# Altium footprint library I.MX6ULL邮票孔转接板.PcbLib: 2 footprints
Each footprint in its own frame and in the unit in brackets; x right, y up, seen from the top. Pads: shape width x height; smd on the part's side, far side on the other; paste and mask are expansions set on the pad; w line width, h text height; cw(c..) or ccw(c..) is an arc to the next point about the centre after c.
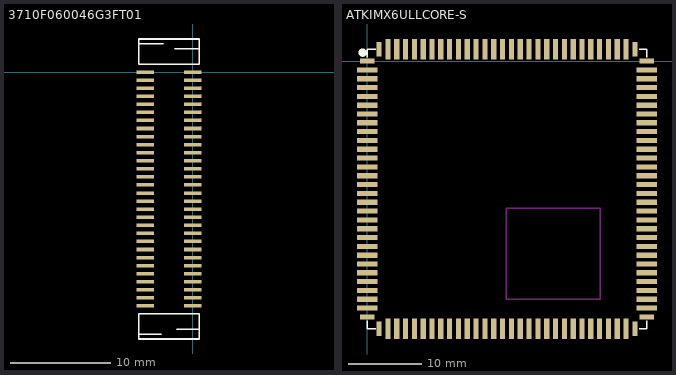
[diagram p0: the footprints below, top view; thin cyan lines are the x and y axes]

## 3710F060046G3FT01 [mm]
pads (60):
  rect 1.7x0.35 smd: 1(-4.7,0) 2(-4.7,-0.8) 3(-4.7,-1.6) 4(-4.7,-2.4) 5(-4.7,-3.2) 6(-4.7,-4) 7(-4.7,-4.8) 8(-4.7,-5.6) 9(-4.7,-6.4) 10(-4.7,-7.2) 11(-4.7,-8) 12(-4.7,-8.8) 13(-4.7,-9.6) 14(-4.7,-10.4) 15(-4.7,-11.2) 16(-4.7,-12) 17(-4.7,-12.8) 18(-4.7,-13.6) 19(-4.7,-14.4) 20(-4.7,-15.2) 21(-4.7,-16) 22(-4.7,-16.8) 23(-4.7,-17.6) 24(-4.7,-18.4) 25(-4.7,-19.2) 26(-4.7,-20) 27(-4.7,-20.8) 28(-4.7,-21.6) 29(-4.7,-22.4) 30(-4.7,-23.2) 31(0,-23.2) 32(0,-22.4) 33(0,-21.6) 34(0,-20.8) 35(0,-20) 36(0,-19.2) 37(0,-18.4) 38(0,-17.6) 39(0,-16.8) 40(0,-16) 41(0,-15.2) 42(0,-14.4) 43(0,-13.6) 44(0,-12.8) 45(0,-12) 46(0,-11.2) 47(0,-10.4) 48(0,-9.6) 49(0,-8.8) 50(0,-8) 51(0,-7.2) 52(0,-6.4) 53(0,-5.6) 54(0,-4.8) 55(0,-4) 56(0,-3.2) 57(0,-2.4) 58(0,-1.6) 59(0,-0.8) 60(0,0)
Top Overlay:
  lines w0.152: -5.35,-26 -3.1,-26 ; -5.35,2.8 -2.9,2.8 ; -1.8,2.3 0.65,2.3 ; -1.6,-25.5 0.65,-25.5 ; 0.625,0.775 -5.35,0.775 -5.35,3.275 0.65,3.275 0.65,0.775 ; -5.35,-26.475 0.65,-26.475 0.65,-23.975 -5.35,-23.975 -5.35,-26.475

## ATKIMX6ULLCORE-S [mm]
pads (120):
  rect 2x0.7 smd: 1(0,0) 30(0,-34.8) 61(38,-34.8) 90(38,0)
  rect 2.8x0.7 smd: 2(0,-1.2) 3(0,-2.4) 4(0,-3.6) 5(0,-4.8) 6(0,-6) 7(0,-7.2) 8(0,-8.4) 9(0,-9.6) 10(0,-10.8) 11(0,-12) 12(0,-13.2) 13(0,-14.4) 14(0,-15.6) 15(0,-16.8) 16(0,-18) 17(0,-19.2) 18(0,-20.4) 19(0,-21.6) 20(0,-22.8) 21(0,-24) 22(0,-25.2) 23(0,-26.4) 24(0,-27.6) 25(0,-28.8) 26(0,-30) 27(0,-31.2) 28(0,-32.4) 29(0,-33.6) 62(38,-33.6) 63(38,-32.4) 64(38,-31.2) 65(38,-30) 66(38,-28.8) 67(38,-27.6) 68(38,-26.4) 69(38,-25.2) 70(38,-24) 71(38,-22.8) 72(38,-21.6) 73(38,-20.4) 74(38,-19.2) 75(38,-18) 76(38,-16.8) 77(38,-15.6) 78(38,-14.4) 79(38,-13.2) 80(38,-12) 81(38,-10.8) 82(38,-9.6) 83(38,-8.4) 84(38,-7.2) 85(38,-6) 86(38,-4.8) 87(38,-3.6) 88(38,-2.4) 89(38,-1.2)
  rect 0.7x2 smd: 31(1.6,-36.4) 60(36.4,-36.4) 91(36.4,1.6) 120(1.6,1.6)
  rect 0.7x2.8 smd: 32(2.8,-36.4) 33(4,-36.4) 34(5.2,-36.4) 35(6.4,-36.4) 36(7.6,-36.4) 37(8.8,-36.4) 38(10,-36.4) 39(11.2,-36.4) 40(12.4,-36.4) 41(13.6,-36.4) 42(14.8,-36.4) 43(16,-36.4) 44(17.2,-36.4) 45(18.4,-36.4) 46(19.6,-36.4) 47(20.8,-36.4) 48(22,-36.4) 49(23.2,-36.4) 50(24.4,-36.4) 51(25.6,-36.4) 52(26.8,-36.4) 53(28,-36.4) 54(29.2,-36.4) 55(30.4,-36.4) 56(31.6,-36.4) 57(32.8,-36.4) 58(34,-36.4) 59(35.2,-36.4) 92(35.2,1.6) 93(34,1.6) 94(32.8,1.6) 95(31.6,1.6) 96(30.4,1.6) 97(29.2,1.6) 98(28,1.6) 99(26.8,1.6) 100(25.6,1.6) 101(24.4,1.6) 102(23.2,1.6) 103(22,1.6) 104(20.8,1.6) 105(19.6,1.6) 106(18.4,1.6) 107(17.2,1.6) 108(16,1.6) 109(14.8,1.6) 110(13.6,1.6) 111(12.4,1.6) 112(11.2,1.6) 113(10,1.6) 114(8.8,1.6) 115(7.6,1.6) 116(6.4,1.6) 117(5.2,1.6) 118(4,1.6) 119(2.8,1.6)
Top Overlay:
  circle w0.55: c-0.635,1.143 r0.284
  lines w0.203: 0,-35.306 0,-36.4 1.143,-36.4 ; 0,0.508 0,1.6 1.143,1.6 ; 36.957,-36.4 38,-36.4 38,-35.306 ; 36.957,1.6 38,1.6 38,0.508
Keep-Out Layer:
  lines w0.203: 18.923,-32.385 31.65,-32.385 ; 18.93,-32.4 18.93,-20 31.65,-20 31.655,-32.385